# Altium footprint library Inductors SMD.PcbLib: 67 footprints (part 3 of 5)
Each footprint in its own frame and in the unit in brackets; x right, y up, seen from the top. Pads: shape width x height; smd on the part's side, far side on the other; paste and mask are expansions set on the pad; w line width, h text height; cw(c..) or ccw(c..) is an arc to the next point about the centre after c.
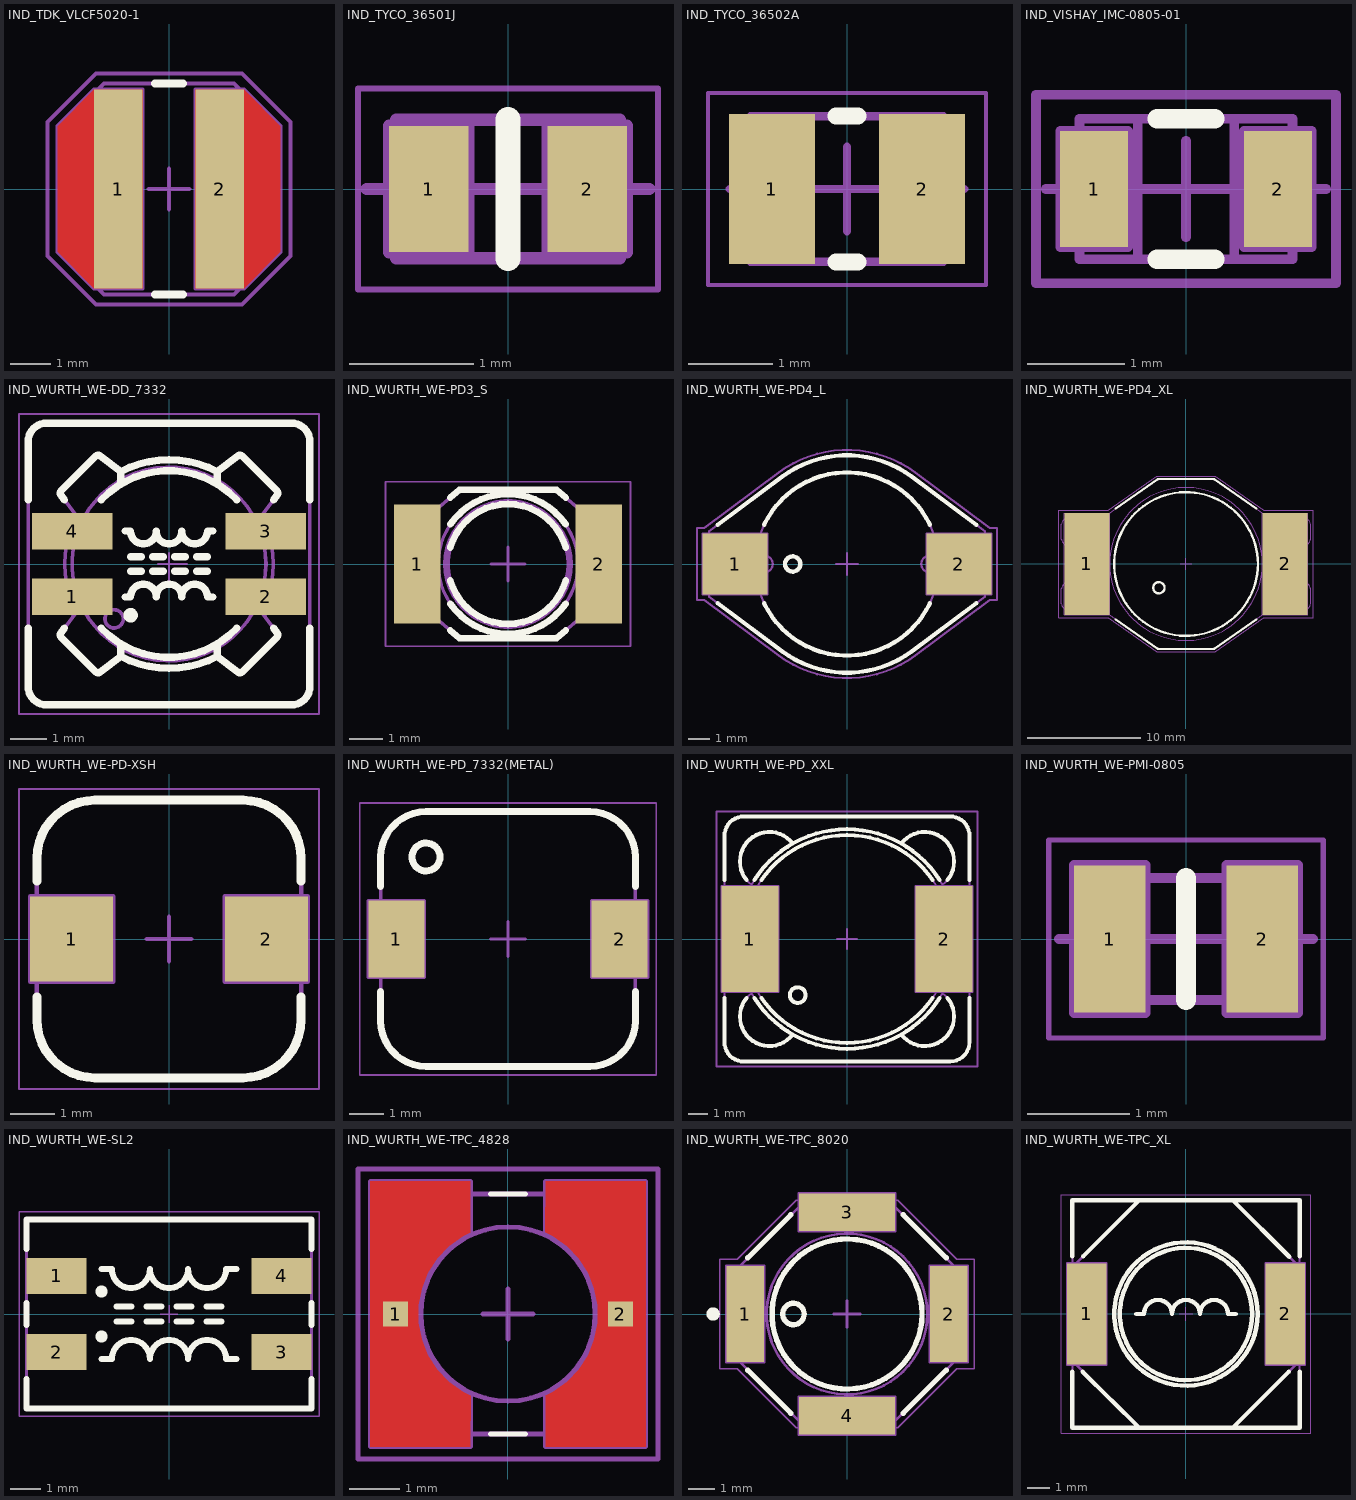
[diagram p2: the footprints below, top view; thin cyan lines are the x and y axes]

## IND_TDK_VLCF5020-1 [mm] "SMD Inductor, 5mm L X 5mm W X 2mm H, TDK VLCF5020-1 Case"
height 2
pads (2):
  rect 1.2x4.9 smd: 1(-1.25,0) 2(1.25,0)
Top Layer:
  region: -2.75,-1.55 -1.85,-2.45 -0.65,-2.45 -0.65,2.45 -1.85,2.45 -2.75,1.55
  region: 2.75,1.55 1.85,2.45 0.65,2.45 0.65,-2.45 1.85,-2.45 2.75,-1.55
Top Overlay:
  lines w0.2: -0.35,-2.6 0.35,-2.6 ; -0.35,2.6 0.35,2.6
Top Paste:
  region: -2.75,-1.55 -1.85,-2.45 -0.65,-2.45 -0.65,2.45 -1.85,2.45 -2.75,1.55
  region: 2.75,1.55 1.85,2.45 0.65,2.45 0.65,-2.45 1.85,-2.45 2.75,-1.55
Top Solder:
  region: 2.85,1.591 1.891,2.55 0.55,2.55 0.55,-2.55 1.891,-2.55 2.85,-1.591
  region: -2.85,-1.591 -1.891,-2.55 -0.55,-2.55 -0.55,2.55 -1.891,2.55 -2.85,1.591
Mechanical 8:
  lines w0.1: -2.2,0 -1.7,0 ; -1.7,-0.5 -1.7,0 ; -1.7,0.5 -1.7,0 ; -1.25,-0.5 -1.25,0 ; -1.25,0.5 -1.25,0 ; -0.75,0 -1.25,0 ; -0.5,0 0,0 ; 0,-0.5 0,0 ; 0,0.5 0,0 ; 0.5,0 0,0 ; 0.75,0 1.25,0 ; 1.25,-0.5 1.25,0 ; 1.25,0.5 1.25,0 ; 1.7,-0.5 1.7,0 ; 1.7,0.5 1.7,0 ; 2.2,0 1.7,0 ; -2.75,-1.55 -2.75,1.55 -1.85,2.45 -0.65,2.45 -0.65,-2.45 -1.85,-2.45 -2.75,-1.55 ; 0.65,-2.45 0.65,2.45 1.85,2.45 2.75,1.55 2.75,-1.55 1.85,-2.45 0.65,-2.45
Mechanical 14:
  lines w0.1: -2.6,-1.6 -1.6,-2.6 1.6,-2.6 2.6,-1.6 2.6,1.6 1.6,2.6 -1.6,2.6 -2.6,1.6 -2.6,-1.6
Mechanical 15:
  lines w0.1: -3,-1.654 -3,1.654 -1.804,2.85 1.804,2.85 3,1.654 3,-1.654 1.804,-2.85 -1.804,-2.85 -3,-1.654
3D body "IND_TDK_VLCF5020-1.stp": height 2, standoff 0, extent -2.6,-2.6 2.6,2.6

## IND_TYCO_36501J [mm] "Chip Inductor, 2-Leads, Body 108 x 1.12mm, TYCO 3650J Serie"
height 1.02
pads (2):
  rect 0.64x1.02 smd: 1(-0.64,0) 2(0.64,0)
Top Overlay:
  lines w0.2: 0,-0.56 0,0.56
Mechanical 8:
  lines w0.1: -1.14,0 -0.64,0 ; -0.64,-0.5 -0.64,0 ; -0.64,0.5 -0.64,0 ; -0.5,0 0,0 ; 0,-0.5 0,0 ; 0,0.5 0,0 ; 0.5,0 0,0 ; 0.64,-0.5 0.64,0 ; 0.64,0.5 0.64,0 ; 1.14,0 0.64,0 ; -0.96,-0.51 -0.96,0.51 -0.32,0.51 -0.32,-0.51 -0.96,-0.51 ; 0.32,-0.51 0.32,0.51 0.96,0.51 0.96,-0.51 0.32,-0.51
Mechanical 14:
  lines w0.1: -0.9,-0.56 0.9,-0.56 0.9,0.56 -0.9,0.56 -0.9,-0.56
Mechanical 15:
  lines w0.05: -1.21,-0.81 -1.21,0.81 1.21,0.81 1.21,-0.81 -1.21,-0.81
3D body "IND_TYCO_36501J.stp": height 1.02, standoff 0, extent -0.9,-0.56 0.9,0.56

## IND_TYCO_36502A [mm] "Chip Inductor, 2-Leads, EIA 0805, Metric 2012, Body L 2.29 x W 1.73mm x H 1.52mm"
height 1.52
pads (2):
  rect 1.02x1.78 smd: 1(-0.89,0) 2(0.89,0)
Top Overlay:
  lines w0.2: -0.13,-0.865 0.13,-0.865 ; -0.13,0.865 0.13,0.865
Mechanical 8:
  lines w0.1: -1.39,0 -0.89,0 ; -0.89,-0.5 -0.89,0 ; -0.89,0.5 -0.89,0 ; 0.89,-0.5 0.89,0 ; 0.89,0.5 0.89,0 ; 1.39,0 0.89,0 ; 0,0 -0.5,0 0,0 ; 0,0 0,-0.5 0,0 ; 0,0 0.5,0 0,0 ; 0,0 0,0.5 0,0
Mechanical 14:
  lines w0.1: -1.145,-0.865 1.145,-0.865 1.145,0.865 -1.145,0.865 -1.145,-0.865
Mechanical 15:
  lines w0.05: -1.65,-1.14 1.65,-1.14 1.65,1.14 -1.65,1.14 -1.65,-1.14
3D body "IND_TYCO_36502A.stp": height 1.52, standoff 0, extent -1.145,-0.865 1.145,0.865

## IND_VISHAY_IMC-0805-01 [mm] "Chip Inductor, EIA 0805, Metric 2012, Body 2.0x1.25mm"
height 1.4
pads (2):
  rect 0.7x1.2 smd: 1(-0.95,0) 2(0.95,0)
Top Overlay:
  lines w0.2: -0.3,-0.725 0.3,-0.725 ; -0.3,0.725 0.3,0.725
Mechanical 8:
  lines w0.1: -1.45,0 -0.95,0 ; -0.95,-0.5 -0.95,0 ; -0.95,0.5 -0.95,0 ; -0.5,0 0,0 ; 0,-0.5 0,0 ; 0,0.5 0,0 ; 0.5,0 0,0 ; 0.95,-0.5 0.95,0 ; 0.95,0.5 0.95,0 ; 1.45,0 0.95,0 ; -1.3,-0.6 -0.6,-0.6 -0.6,0.6 -1.3,0.6 -1.3,-0.6 ; 0.6,-0.6 0.6,0.6 1.3,0.6 1.3,-0.6 0.6,-0.6
Mechanical 14:
  lines w0.1: -0.5,-0.725 -0.5,0.725 ; 0.5,-0.725 0.5,0.725 ; -1.1,-0.725 1.1,-0.725 1.1,0.725 -1.1,0.725 -1.1,-0.725
Mechanical 15:
  lines w0.1: -1.55,-0.975 1.55,-0.975 1.55,0.975 -1.55,0.975 -1.55,-0.975
3D body "IND_VISHAY_IMC-0805-01.stp": height 1.4, standoff 0, extent -1.1,-0.725 1.1,0.725

## IND_WURTH_WE-DD_7332 [mm] "Power Choke, WE-DD Serie, Body 7.7x7.7mm"
height 4
pads (4):
  rect 2.2x1 smd: 1(-2.65,-0.9) 2(2.65,-0.9) 3(2.65,0.9) 4(-2.65,0.9)
Top Overlay:
  circle w0.2: c-1.05,-1.4 r0.1
  lines w0.2: -3.85,-1.75 -3.85,-3.35 ccw(c-3.35,-3.35) -3.35,-3.85 3.35,-3.85 ccw(c3.35,-3.35) 3.85,-3.35 3.85,-1.75 ; -3.85,1.75 -3.85,3.35 cw(c-3.35,3.35) -3.35,3.85 3.35,3.85 cw(c3.35,3.35) 3.85,3.35 3.85,1.75 ; -2.855,-1.75 -2.951,-1.875 ccw(c-2.872,-1.936) -2.943,-2.007 -2.007,-2.943 ccw(c-1.936,-2.872) -1.875,-2.951 -1.322,-2.525 ; -2.855,1.75 -2.951,1.875 cw(c-2.872,1.936) -2.943,2.007 -2.007,2.943 cw(c-1.936,2.872) -1.875,2.951 -1.322,2.525 ; -1.855,-1.75 ccw(c0,0) 1.855,-1.75 ; -1.855,1.75 cw(c0,0) 1.855,1.75 ; -1.322,-2.18 -1.322,-2.525 ; -1.322,2.18 -1.322,2.525 ; -1.2,-0.9 -1.05,-0.9 cw(c-0.7,-0.9) -0.35,-0.9 cw(c0,-0.9) 0.35,-0.9 cw(c0.7,-0.9) 1.05,-0.9 1.2,-0.9 ; -1.2,0.9 -1.05,0.9 ccw(c-0.7,0.9) -0.35,0.9 ccw(c0,0.9) 0.35,0.9 ccw(c0.7,0.9) 1.05,0.9 1.2,0.9 ; -1.05,-0.2 -0.75,-0.2 ; -1.05,0.2 -0.75,0.2 ; -0.45,-0.2 -0.15,-0.2 ; -0.45,0.2 -0.15,0.2 ; 0.15,-0.2 0.45,-0.2 ; 0.15,0.2 0.45,0.2 ; 0.75,-0.2 1.05,-0.2 ; 0.75,0.2 1.05,0.2 ; 1.322,-2.18 1.322,-2.525 ; 1.322,2.18 1.322,2.525 ; 2.855,-1.75 2.951,-1.875 cw(c2.872,-1.936) 2.943,-2.007 2.007,-2.943 cw(c1.936,-2.872) 1.875,-2.951 1.322,-2.525 ; 2.855,1.75 2.951,1.875 ccw(c2.872,1.936) 2.943,2.007 2.007,2.943 ccw(c1.936,2.872) 1.875,2.951 1.322,2.525 ; -1.322,-2.525 ccw(c0,0) 1.322,-2.525 ; -1.322,2.525 cw(c0,0) 1.322,2.525
Mechanical 8:
  lines w0.05: -2.65,-1.4 -2.65,-0.9 -2.15,-0.9 ; -2.65,0.4 -2.65,0.9 -2.15,0.9 ; 0,-0.5 0,0 0.5,0 ; 2.65,-1.4 2.65,-0.9 3.15,-0.9 ; 2.65,0.4 2.65,0.9 3.15,0.9
Mechanical 14:
  circle w0.1: c0,0 r2.65
  circle w0.1: c-1.5,-1.5 r0.25
  lines w0.1: -2.296,-1.322 -2.525,-1.322 ; -2.296,1.322 -2.525,1.322 ; -1.322,-2.296 -1.322,-2.525 ; -1.322,2.296 -1.322,2.525 ; -1.2,-0.9 -1.05,-0.9 cw(c-0.7,-0.9) -0.35,-0.9 cw(c0,-0.9) 0.35,-0.9 cw(c0.7,-0.9) 1.05,-0.9 1.2,-0.9 ; -1.2,0.9 -1.05,0.9 ccw(c-0.7,0.9) -0.35,0.9 ccw(c0,0.9) 0.35,0.9 ccw(c0.7,0.9) 1.05,0.9 1.2,0.9 ; -1.05,-0.2 -0.75,-0.2 ; -1.05,0.2 -0.75,0.2 ; -0.45,-0.2 -0.15,-0.2 ; -0.45,0.2 -0.15,0.2 ; 0.15,-0.2 0.45,-0.2 ; 0.15,0.2 0.45,0.2 ; 0.75,-0.2 1.05,-0.2 ; 0.75,0.2 1.05,0.2 ; 1.322,-2.296 1.322,-2.525 ; 1.322,2.296 1.322,2.525 ; 2.296,-1.322 2.525,-1.322 ; 2.296,1.322 2.525,1.322 ; -2.525,-1.322 cw(c0,0) -2.525,1.322 ; -2.525,-1.322 -2.951,-1.875 ccw(c-2.872,-1.936) -2.943,-2.007 -2.007,-2.943 ccw(c-1.936,-2.872) -1.875,-2.951 -1.322,-2.525 ; -2.525,1.322 -2.951,1.875 cw(c-2.872,1.936) -2.943,2.007 -2.007,2.943 cw(c-1.936,2.872) -1.875,2.951 -1.322,2.525 ; -1.322,-2.525 ccw(c0,0) 1.322,-2.525 ; -1.322,2.525 cw(c0,0) 1.322,2.525 ; 1.322,-2.525 1.875,-2.951 ccw(c1.936,-2.872) 2.007,-2.943 2.943,-2.007 ccw(c2.872,-1.936) 2.951,-1.875 2.525,-1.322 ; 1.322,2.525 1.875,2.951 cw(c1.936,2.872) 2.007,2.943 2.943,2.007 cw(c2.872,1.936) 2.951,1.875 2.525,1.322 ; 2.525,-1.322 ccw(c0,0) 2.525,1.322 ; -3.85,-3.35 ccw(c-3.35,-3.35) -3.35,-3.85 3.35,-3.85 ccw(c3.35,-3.35) 3.85,-3.35 3.85,3.35 ccw(c3.35,3.35) 3.35,3.85 -3.35,3.85 ccw(c-3.35,3.35) -3.85,3.35 -3.85,-3.35
Mechanical 15:
  lines w0.05: -0.3,0 0.3,0 ; 0,-0.3 0,0.3 ; -4.1,-4.1 -4.1,4.1 4.1,4.1 4.1,-4.1 -4.1,-4.1
3D body "IND_WURTH_WE-DD-7332.stp": height 4, standoff 0, extent -3.65,-3.65 3.65,3.65

## IND_WURTH_WE-PD3_S [mm] "SMD Power Choke, Width 4.45mm Body Lenght 6.6mm Height 2.92mm, WURTH WE-PD3 Serie"
height 2.92
pads (2):
  rect 1.4x3.56 smd: 1(-2.725,0) 2(2.725,0)
Top Overlay:
  lines w0.2: -1.73,-1.993 -1.462,-2.225 1.462,-2.225 1.73,-1.993 ; -1.73,-1.19 ccw(c0,0) 1.73,-1.19 ; -1.73,-0.497 ccw(c0,0) 1.73,-0.497 ; -1.73,0.497 cw(c0,0) 1.73,0.497 ; -1.73,1.19 cw(c0,0) 1.73,1.19 ; -1.73,1.993 -1.462,2.225 1.462,2.225 1.73,1.993
Mechanical 8:
  lines w0.1: -3.23,0 -2.73,0 ; -2.73,-0.5 -2.73,0 ; -2.73,0.5 -2.73,0 ; -2.23,0 -2.73,0 ; -0.5,0 0,0 ; 0,-0.5 0,0 ; 0,0.5 0,0 ; 0.5,0 0,0 ; 2.23,0 2.73,0 ; 2.73,-0.5 2.73,0 ; 2.73,0.5 2.73,0 ; 3.23,0 2.73,0
Mechanical 14:
  circle w0.1: c0,0 r2.1
  circle w0.1: c0,0 r1.9
  circle w0.1: c0,0 r1.8
  lines w0.1: -2.3,-1.5 -3.3,-0.635 -3.3,0.635 -2.3,1.5 ; -2.3,-1.5 -2.3,1.5 ; -2.3,-1.5 -1.462,-2.225 1.462,-2.225 2.3,-1.5 ; -2.3,1.5 -1.462,2.225 1.462,2.225 2.3,1.5 ; 2.3,-1.5 2.3,1.5 ; 2.3,-1.5 3.3,-0.635 3.3,0.635 2.3,1.5
Mechanical 15:
  lines w0.05: -3.68,-2.475 -3.68,2.475 3.68,2.475 3.68,-2.475 -3.68,-2.475
3D body "IND_WURTH_WE-PD3-S.stp": height 2.92, standoff 0, extent -3.3,-2.225 3.3,2.225

## IND_WURTH_WE-PD4_L [mm] "SMD Power Choke, Width 10mm Body Lenght 12.7mm Height 5.3mm, WURTH WE-PD 4 Serie Type L"
height 5.3
pads (2):
  rect 3x2.8 smd: 1(-5.15,0) 2(5.15,0)
Top Overlay:
  circle w0.2: c-2.5,0 r0.35
  lines w0.2: -5.948,-1.8 -2.99,-4.007 ccw(c0,0) 2.99,-4.007 5.948,-1.8 ; -5.948,1.8 -2.99,4.007 cw(c0,0) 2.99,4.007 5.948,1.8 ; -3.811,-1.8 ccw(c0,0) 3.811,-1.8 ; -3.811,1.8 cw(c0,0) 3.811,1.8
Mechanical 8:
  lines w0.1: -5.65,0 -5.15,0 ; -5.15,-0.5 -5.15,0 ; -5.15,0.5 -5.15,0 ; -4.65,0 -5.15,0 ; -0.5,0 0,0 ; 0,-0.5 0,0 ; 0,0.5 0,0 ; 0.5,0 0,0 ; 4.65,0 5.15,0 ; 5.15,-0.5 5.15,0 ; 5.15,0.5 5.15,0 ; 5.65,0 5.15,0 ; -6.65,-1.4 -3.65,-1.4 -3.65,1.4 -6.65,1.4 -6.65,-1.4 ; 3.65,-1.4 6.65,-1.4 6.65,1.4 3.65,1.4 3.65,-1.4
Mechanical 14:
  circle w0.1: c-2.5,0 r0.35
  circle w0.1: c0,0 r4.215
  lines w0.1: -6.2,-1 -6.2,1 ; -4.196,-0.4 -3.815,-0.4 ccw(c-3.815,0) -3.815,0.4 -4.196,0.4 ; -4.095,-1 -6.35,-1 -6.35,-1.5 -2.99,-4.007 ccw(c0,0) 2.99,-4.007 6.35,-1.5 6.35,-1 4.095,-1 ; -4.095,1 -6.35,1 -6.35,1.5 -2.99,4.007 cw(c0,0) 2.99,4.007 6.35,1.5 6.35,1 4.095,1 ; 4.196,-0.4 3.815,-0.4 cw(c3.815,0) 3.815,0.4 4.196,0.4 ; 6.2,-1 6.2,1
Mechanical 15:
  lines w0.1: -6.9,-1.65 -6.567,-1.65 -3.14,-4.208 ccw(c0,0) 3.14,-4.208 6.567,-1.65 6.9,-1.65 6.9,1.65 6.567,1.65 3.14,4.208 ccw(c0,0) -3.14,4.208 -6.567,1.65 -6.9,1.65 -6.9,-1.65
3D body "IND_WURTH_WE-PD4-L.stp": height 5, standoff 0, extent -6.35,-4.991 6.35,4.992

## IND_WURTH_WE-PD4_XL [mm] "SMD Power Choke, Body Width 15mm Body Lenght 15mm Height 7.8mm, WURTH WE-PD 4 Serie Type XL"
height 7.8
pads (2):
  rect 4x9 smd: 1(-8.75,0) 2(8.75,0)
Top Overlay:
  circle w0.2: c0,0 r6.35
  circle w0.2: c-2.395,-2.099 r0.5
  lines w0.2: -6.214,-4.9 -2.552,-7.464 ccw(c-2.437,-7.3) -2.437,-7.5 2.437,-7.5 ccw(c2.437,-7.3) 2.552,-7.464 6.214,-4.9 ; -6.214,4.9 -2.552,7.464 cw(c-2.437,7.3) -2.437,7.5 2.437,7.5 cw(c2.437,7.3) 2.552,7.464 6.214,4.9
Mechanical 8:
  lines w0.1: -9.25,0 -8.75,0 ; -8.75,-0.5 -8.75,0 ; -8.75,0.5 -8.75,0 ; -8.25,0 -8.75,0 ; -0.5,0 0,0 ; 0,-0.5 0,0 ; 0,0.5 0,0 ; 0.5,0 0,0 ; 8.25,0 8.75,0 ; 8.75,-0.5 8.75,0 ; 8.75,0.5 8.75,0 ; 9.25,0 8.75,0 ; -10.75,-4.5 -10.75,4.5 -6.75,4.5 -6.75,-4.5 -10.75,-4.5 ; 6.75,-4.5 6.75,4.5 10.75,4.5 10.75,-4.5 6.75,-4.5
Mechanical 14:
  circle w0.1: c0,0 r6.75
  circle w0.1: c-2.395,-2.099 r0.5
  lines w0.1: -9.8,-3 -10,-3 -10,-3.5 cw(c-10.5,-3.5) -11,-3.5 -11,-2.2 cw(c-10.5,-2.2) -10.852,-1.845 -10.059,-1.059 ccw(c-10.2,-0.917) -10,-0.917 -10,0.917 ccw(c-10.2,0.917) -10.059,1.059 -10.852,1.845 cw(c-10.5,2.2) -11,2.2 -11,3.5 cw(c-10.5,3.5) -10,3.5 -10,3 -9.8,3 ; -7.5,-3.896 ccw(c-7.3,-3.896) -7.415,-4.06 -2.552,-7.464 ccw(c-2.437,-7.3) -2.437,-7.5 2.437,-7.5 ccw(c2.437,-7.3) 2.552,-7.464 7.415,-4.06 ccw(c7.3,-3.896) 7.5,-3.896 ; -7.5,3.896 cw(c-7.3,3.896) -7.415,4.06 -2.552,7.464 cw(c-2.437,7.3) -2.437,7.5 2.437,7.5 cw(c2.437,7.3) 2.552,7.464 7.415,4.06 cw(c7.3,3.896) 7.5,3.896 ; 9.8,-3 10,-3 10,-3.5 ccw(c10.5,-3.5) 11,-3.5 11,-2.2 ccw(c10.5,-2.2) 10.852,-1.845 10.059,-1.059 cw(c10.2,-0.917) 10,-0.917 10,0.917 cw(c10.2,0.917) 10.059,1.059 10.852,1.845 ccw(c10.5,2.2) 11,2.2 11,3.5 ccw(c10.5,3.5) 10,3.5 10,3 9.8,3 ; -9.8,-4 -7.5,-4 -7.5,4 -9.8,4 -9.8,-4 ; 7.5,-4 9.8,-4 9.8,4 7.5,4 7.5,-4
Mechanical 15:
  lines w0.1: -11.25,-4.75 -11.25,4.75 -6.865,4.75 -2.579,7.75 2.579,7.75 6.865,4.75 11.25,4.75 11.25,-4.75 6.865,-4.75 2.579,-7.75 -2.579,-7.75 -6.865,-4.75 -11.25,-4.75
3D body "IND_WURTH_WE-PD4-XL.stp": height 7, standoff 0, extent -11,-7.5 11,7.5

## IND_WURTH_WE-PD-XSH [mm] "Power-Choke Inductor, Body 6.2x5.9mm, WURTH WE-PD Serie Type XSH"
height 5.1
pads (2):
  rect 1.85x1.9 smd: 1(-2.175,0) 2(2.175,0)
Top Overlay:
  lines w0.2: -2.95,-1.3 -2.95,-1.8 ccw(c-1.65,-1.8) -1.65,-3.1 1.65,-3.1 ccw(c1.65,-1.8) 2.95,-1.8 2.95,-1.3 ; -2.95,1.3 -2.95,1.8 cw(c-1.65,1.8) -1.65,3.1 1.65,3.1 cw(c1.65,1.8) 2.95,1.8 2.95,1.3
Mechanical 8:
  lines w0.1: -2.675,0 -2.175,0 ; -2.175,-0.5 -2.175,0 ; -2.175,0.5 -2.175,0 ; -1.675,0 -2.175,0 ; -0.5,0 0,0 ; 0,-0.5 0,0 ; 0,0.5 0,0 ; 0.5,0 0,0 ; 1.675,0 2.175,0 ; 2.175,-0.5 2.175,0 ; 2.175,0.5 2.175,0 ; 2.675,0 2.175,0 ; -3.1,-0.95 -1.25,-0.95 -1.25,0.95 -3.1,0.95 -3.1,-0.95 ; 1.25,-0.95 3.1,-0.95 3.1,0.95 1.25,0.95 1.25,-0.95
Mechanical 14:
  lines w0.1: -2.95,-1.8 ccw(c-1.65,-1.8) -1.65,-3.1 1.65,-3.1 ccw(c1.65,-1.8) 2.95,-1.8 2.95,1.8 ccw(c1.65,1.8) 1.65,3.1 -1.65,3.1 ccw(c-1.65,1.8) -2.95,1.8 -2.95,-1.8
Mechanical 15:
  lines w0.05: -3.35,-3.35 3.35,-3.35 3.35,3.35 -3.35,3.35 -3.35,-3.35
3D body "IND_WURTH_WE-PD-XSH.stp": height 5.1, standoff 0, extent -2.95,-3.1 2.95,3.1

## IND_WURTH_WE-PD_7332(METAL) [mm] "Power Choke, WE-PD Serie, Body 7.3x7.3mm (Metal Base)"
height 3.4
pads (2):
  rect 1.6x2.2 smd: 1(-3.2,0) 2(3.2,0)
Top Overlay:
  circle w0.2: c-2.35,2.35 r0.4
  lines w0.2: -3.65,-1.5 -3.65,-2.35 ccw(c-2.35,-2.35) -2.35,-3.65 2.35,-3.65 ccw(c2.35,-2.35) 3.65,-2.35 3.65,-1.5 ; -3.65,1.5 -3.65,2.35 cw(c-2.35,2.35) -2.35,3.65 2.35,3.65 cw(c2.35,2.35) 3.65,2.35 3.65,1.5
Mechanical 8:
  lines w0.1: -3.7,0 -3.2,0 ; -3.2,-0.5 -3.2,0 ; -3.2,0.5 -3.2,0 ; -2.7,0 -3.2,0 ; -0.5,0 0,0 ; 0,-0.5 0,0 ; 0,0.5 0,0 ; 0.5,0 0,0 ; 2.7,0 3.2,0 ; 3.2,-0.5 3.2,0 ; 3.2,0.5 3.2,0 ; 3.7,0 3.2,0 ; -2.4,-1.1 -4,-1.1 -4,1.1 -2.4,1.1 ; -2.4,-1.1 -2.4,1.1 ; -2.4,-1.1 -2.4,1.1 ; 4,-1.1 2.4,-1.1 2.4,1.1 4,1.1 ; 4,-1.1 4,1.1 ; 4,-1.1 4,1.1
Mechanical 14:
  circle w0.1: c-2.35,2.35 r0.4
  lines w0.1: -3.65,-2.35 ccw(c-2.35,-2.35) -2.35,-3.65 2.35,-3.65 ccw(c2.35,-2.35) 3.65,-2.35 3.65,2.35 ccw(c2.35,2.35) 2.35,3.65 -2.35,3.65 ccw(c-2.35,2.35) -3.65,2.35 -3.65,-2.35
Mechanical 15:
  lines w0.05: -4.25,-3.9 -4.25,3.9 4.25,3.9 4.25,-3.9 -4.25,-3.9
3D body "IND_WURTH_WE-PD_7332(METAL).stp": height 3.4, standoff 0, extent -3.65,-3.65 3.65,3.65

## IND_WURTH_WE-PD_XXL [mm] "Power-Choke Inductor, Body 12x12mm, WURTH WE-PD Serie Type XXL"
height 10
pads (2):
  rect 2.9x5.4 smd: 1(-4.95,0) 2(4.95,0)
Top Overlay:
  circle w0.2: c-2.51,-2.86 r0.4
  lines w0.2: -6.25,-3 -6.25,-5.25 ccw(c-5.25,-5.25) -5.25,-6.25 5.25,-6.25 ccw(c5.25,-5.25) 6.25,-5.25 6.25,-3 ; -6.25,3 -6.25,5.25 cw(c-5.25,5.25) -5.25,6.25 5.25,6.25 cw(c5.25,5.25) 6.25,5.25 6.25,3 ; -5.113,-3 ccw(c-3.96,-3.96) -2.767,-4.869 ; -5.113,3 cw(c-3.96,3.96) -2.767,4.869 ; -4.729,-3 ccw(c0,0) 4.729,-3 ; -4.729,3 cw(c0,0) 4.729,3 ; -4.369,-3 ccw(c0,0) 4.369,-3 ; -4.369,3 cw(c0,0) 4.369,3 ; 2.767,-4.869 ccw(c3.96,-3.96) 5.113,-3 ; 2.767,4.869 cw(c3.96,3.96) 5.113,3
Mechanical 8:
  lines w0.1: -5.45,0 -4.95,0 ; -4.95,-0.5 -4.95,0 ; -4.95,0.5 -4.95,0 ; -4.45,0 -4.95,0 ; -0.5,0 0,0 ; 0,-0.5 0,0 ; 0,0.5 0,0 ; 0.5,0 0,0 ; 4.45,0 4.95,0 ; 4.95,-0.5 4.95,0 ; 4.95,0.5 4.95,0 ; 5.45,0 4.95,0 ; -3.5,-2.7 -6.4,-2.7 -6.4,2.7 -3.5,2.7 ; -3.5,-2.7 -3.5,2.7 ; -3.5,-2.7 -3.5,2.7 ; 3.5,-2.7 3.5,2.7 ; 3.5,-2.7 6.4,-2.7 6.4,2.7 3.5,2.7 ; 3.5,-2.7 3.5,2.7
Mechanical 14:
  circle w0.1: c0,0 r5.6
  circle w0.1: c0,0 r5.3
  circle w0.1: c-2.51,-2.86 r0.4
  lines w0.1: -4.869,-2.767 ccw(c-3.96,-3.96) -2.767,-4.869 ; -4.869,2.767 cw(c-3.96,3.96) -2.767,4.869 ; 2.767,-4.869 ccw(c3.96,-3.96) 4.869,-2.767 ; 2.767,4.869 cw(c3.96,3.96) 4.869,2.767 ; -6.25,-5.25 ccw(c-5.25,-5.25) -5.25,-6.25 5.25,-6.25 ccw(c5.25,-5.25) 6.25,-5.25 6.25,5.25 ccw(c5.25,5.25) 5.25,6.25 -5.25,6.25 ccw(c-5.25,5.25) -6.25,5.25 -6.25,-5.25
Mechanical 15:
  lines w0.1: -6.65,-6.5 6.65,-6.5 6.65,6.5 -6.65,6.5 -6.65,-6.5
3D body "IND_WURTH_WE-PD-XXL.stp": height 10, standoff 0, extent -6.25,-6.25 6.25,6.25

## IND_WURTH_WE-PMI-0805 [mm] "Chip Inductor, EIA 0805, Metric 2012, Body 2.0x1.2mm, WE-PMI Serie"
height 1.2
pads (2):
  rect 0.7x1.45 smd: 1(-0.75,0) 2(0.75,0)
Top Overlay:
  lines w0.2: 0,-0.6 0,0.6
Mechanical 8:
  lines w0.1: -1.25,0 -0.75,0 ; -0.75,-0.5 -0.75,0 ; -0.75,0.5 -0.75,0 ; -0.5,0 0,0 ; 0,-0.5 0,0 ; 0,0.5 0,0 ; 0.5,0 0,0 ; 0.75,-0.5 0.75,0 ; 0.75,0.5 0.75,0 ; 1.25,0 0.75,0 ; -1.1,-0.725 -0.4,-0.725 -0.4,0.725 -1.1,0.725 -1.1,-0.725 ; 0.4,-0.725 1.1,-0.725 1.1,0.725 0.4,0.725 0.4,-0.725
Mechanical 14:
  lines w0.1: -1,-0.6 1,-0.6 1,0.6 -1,0.6 -1,-0.6
Mechanical 15:
  lines w0.05: -1.35,-0.975 1.35,-0.975 1.35,0.975 -1.35,0.975 -1.35,-0.975
3D body "IND_WURTH_WE-PMI-0805.stp": height 1, standoff 0, extent -1,-0.6 1,0.6

## IND_WURTH_WE-SL2 [mm] "Common Mode SMD Line Filter WE-SL2"
height 1.45
pads (4):
  rect 2x1.2 smd: 1(-3.75,1.27) 2(-3.75,-1.27) 3(3.75,-1.27) 4(3.75,1.27)
Top Overlay:
  circle w0.2: c-2.25,0.75 r0.1
  circle w0.2: c-2.25,-0.75 r0.1
  lines w0.2: -4.75,-2.175 -4.75,-3.15 4.75,-3.15 4.75,-2.175 ; -4.75,-0.365 -4.75,0.365 ; -4.75,2.175 -4.75,3.15 4.75,3.15 4.75,2.175 ; -2.25,-1.5 -1.905,-1.5 cw(c-1.27,-1.5) -0.635,-1.5 cw(c0,-1.5) 0.635,-1.5 cw(c1.27,-1.5) 1.905,-1.5 2.25,-1.5 ; -2.25,1.5 -1.905,1.5 ccw(c-1.27,1.5) -0.635,1.5 ccw(c0,1.5) 0.635,1.5 ccw(c1.27,1.5) 1.905,1.5 2.25,1.5 ; -1.75,-0.25 -1.25,-0.25 ; -1.75,0.25 -1.25,0.25 ; -0.75,-0.25 -0.25,-0.25 ; -0.75,0.25 -0.25,0.25 ; 0.25,-0.25 0.75,-0.25 ; 0.25,0.25 0.75,0.25 ; 1.25,-0.25 1.75,-0.25 ; 1.25,0.25 1.75,0.25 ; 4.75,-0.365 4.75,0.365
Mechanical 14:
  circle w0.1: c-2.25,0.75 r0.1
  circle w0.1: c-2.25,-0.75 r0.1
  lines w0.1: -2.25,-1.5 -1.905,-1.5 cw(c-1.27,-1.5) -0.635,-1.5 cw(c0,-1.5) 0.635,-1.5 cw(c1.27,-1.5) 1.905,-1.5 2.25,-1.5 ; -2.25,1.5 -1.905,1.5 ccw(c-1.27,1.5) -0.635,1.5 ccw(c0,1.5) 0.635,1.5 ccw(c1.27,1.5) 1.905,1.5 2.25,1.5 ; -1.75,-0.25 -1.25,-0.25 ; -1.75,0.25 -1.25,0.25 ; -0.75,-0.25 -0.25,-0.25 ; -0.75,0.25 -0.25,0.25 ; 0.25,-0.25 0.75,-0.25 ; 0.25,0.25 0.75,0.25 ; 1.25,-0.25 1.75,-0.25 ; 1.25,0.25 1.75,0.25 ; -4.75,-3.15 4.75,-3.15 4.75,3.15 -4.75,3.15 -4.75,-3.15
Mechanical 15:
  lines w0.05: -0.3,0 0.3,0 ; 0,-0.3 0,0.3 ; -5,-3.4 5,-3.4 5,3.4 -5,3.4 -5,-3.4
3D body "IND_WURTH_WE-SL2.stp": height 5.3, standoff 0, extent -4.749,-3.149 4.751,3.151

## IND_WURTH_WE-TPC_4828 [mm] "Shielded Tiny Power Inductor, Body 4.8x4.8mm"
height 2.8
pads (2):
  rect 0.5x0.5 smd: 1(-2.247,0) 2(2.247,0)
Top Layer:
  region: 0.75,-2.65 2.75,-2.65 2.75,2.65 0.75,2.65 0.75,1.636 0.902,1.558 1.18,1.359 1.416,1.112 1.6,0.824 1.727,0.507 1.792,0.171 1.792,-0.171 1.727,-0.507 1.6,-0.824 1.416,-1.112 1.18,-1.359 0.902,-1.558 0.75,-1.636
  region: -2.75,-2.65 -0.75,-2.65 -0.75,-1.636 -0.902,-1.558 -1.18,-1.359 -1.416,-1.112 -1.6,-0.824 -1.727,-0.507 -1.792,-0.171 -1.792,0.171 -1.727,0.507 -1.6,0.824 -1.416,1.112 -1.18,1.359 -0.902,1.558 -0.75,1.636 -0.75,2.65 -2.75,2.65
Top Overlay:
  lines w0.1: -0.35,-2.4 0.35,-2.4 ; -0.35,2.4 0.35,2.4
Mechanical 8:
  lines w0.1: -2.747,0 -2.247,0 ; -2.247,-0.5 -2.247,0 ; -2.247,0.5 -2.247,0 ; -1.747,0 -2.247,0 ; -0.5,0 0,0 ; 0,-0.5 0,0 ; 0,0.5 0,0 ; 0.5,0 0,0 ; 1.747,0 2.247,0 ; 2.247,-0.5 2.247,0 ; 2.247,0.5 2.247,0 ; 2.747,0 2.247,0 ; -2.75,-2.65 -2.75,2.65 -0.75,2.65 -0.75,1.636 ccw(c0,0) -0.75,-1.636 -0.75,-2.65 -2.75,-2.65 ; 0.75,-2.65 0.75,-1.636 ccw(c0,0) 0.75,1.636 0.75,2.65 2.75,2.65 2.75,-2.65 0.75,-2.65
Mechanical 14:
  circle w0.1: c0,0 r1.744
  lines w0.1: -2.4,-2.4 2.4,-2.4 2.4,2.4 -2.4,2.4 -2.4,-2.4
Mechanical 15:
  lines w0.1: -3,-2.9 -3,2.9 3,2.9 3,-2.9 -3,-2.9
3D body "IND_WURTH_WE-TPC-4828.stp": height 2.8, standoff 0, extent -2.4,-2.4 2.4,2.4

## IND_WURTH_WE-TPC_8020 [mm] "Power Choke Inductor, Body 8x8mm"
height 2
pads (4):
  rect 1.4x3.6 smd: 1(-3.8,0) 2(3.8,0)
  rect 3.6x1.4 smd: 3(0,3.8) 4(0,-3.8)
Top Overlay:
  circle w0.2: c-2,0 r0.4
  circle w0.25: c-5,0 r0.125
  circle w0.2: c0,0 r2.8
  lines w0.2: -3.7,-2.1 -2.1,-3.7 ; -3.7,2.1 -2.1,3.7 ; 2.1,-3.7 3.7,-2.1 ; 2.1,3.7 3.7,2.1
Mechanical 8:
  lines w0.1: -4.3,0 -3.8,0 ; -3.8,-0.5 -3.8,0 ; -3.8,0.5 -3.8,0 ; -3.3,0 -3.8,0 ; -0.5,-3.8 0,-3.8 ; -0.5,0 0,0 ; -0.5,3.8 0,3.8 ; 0,-4.3 0,-3.8 ; 0,-3.3 0,-3.8 ; 0,-0.5 0,0 ; 0,0.5 0,0 ; 0,3.3 0,3.8 ; 0,4.3 0,3.8 ; 0.5,-3.8 0,-3.8 ; 0.5,0 0,0 ; 0.5,3.8 0,3.8 ; 3.3,0 3.8,0 ; 3.8,-0.5 3.8,0 ; 3.8,0.5 3.8,0 ; 4.3,0 3.8,0 ; -4.5,-1.8 -3.1,-1.8 -3.1,1.8 -4.5,1.8 -4.5,-1.8 ; -1.8,-4.5 -1.8,-3.1 1.8,-3.1 1.8,-4.5 -1.8,-4.5 ; -1.8,3.1 -1.8,4.5 1.8,4.5 1.8,3.1 -1.8,3.1 ; 3.1,-1.8 4.5,-1.8 4.5,1.8 3.1,1.8 3.1,-1.8
Mechanical 14:
  circle w0.1: c-2,0 r0.4
  circle w0.1: c0,0 r3
  circle w0.1: c0,0 r2.8
  lines w0.1: -4,-1.8 -4,1.8 -1.8,4 1.8,4 4,1.8 4,-1.8 1.8,-4 -1.8,-4 -4,-1.8
Mechanical 15:
  lines w0.05: -4.75,-2.05 -4.104,-2.05 -1.904,-4.25 1.904,-4.25 4.104,-2.05 4.75,-2.05 4.75,2.05 4.104,2.05 1.904,4.25 -1.904,4.25 -4.104,2.05 -4.75,2.05 -4.75,-2.05
3D body "IND_WURTH_WE-TPC-8020.stp": height 2, standoff 0, extent -4,-4 4,4

## IND_WURTH_WE-TPC_XL [mm] "Shielded Tiny Power Inductor, Body 10.3x10.3mm"
height 3.1
pads (2):
  rect 1.8x4.6 smd: 1(-4.5,0) 2(4.5,0)
Top Overlay:
  circle w0.2: c0,0 r3
  circle w0.2: c0,0 r3.25
  lines w0.2: -5.15,-2.625 -5.15,-5.15 5.15,-5.15 5.15,-2.625 ; -5.15,2.625 -5.15,5.15 5.15,5.15 5.15,2.625 ; -4.675,-2.625 -2.133,-5.15 ; -4.65,2.625 -2.133,5.15 ; -2.25,0 -1.905,0 cw(c-1.27,0) -0.635,0 cw(c0,0) 0.635,0 cw(c1.27,0) 1.905,0 2.25,0 ; 2.133,-5.15 4.65,-2.625 ; 2.133,5.15 4.675,2.6
Mechanical 8:
  lines w0.1: -5.4,-2.3 -5.4,2.3 -3.6,2.3 -3.6,-2.3 -5.4,-2.3 ; 3.6,-2.3 3.6,2.3 5.4,2.3 5.4,-2.3 3.6,-2.3
Mechanical 14:
  circle w0.1: c0,0 r3.25
  circle w0.1: c0,0 r3
  lines w0.1: -5.15,-2.133 -2.133,-5.15 ; -5.15,2.133 -2.133,5.15 ; -2.25,0 -1.905,0 cw(c-1.27,0) -0.635,0 cw(c0,0) 0.635,0 cw(c1.27,0) 1.905,0 2.25,0 ; 2.133,-5.15 5.15,-2.133 ; 2.133,5.15 5.15,2.133 ; -5.15,-5.15 5.15,-5.15 5.15,5.15 -5.15,5.15 -5.15,-5.15
Mechanical 15:
  lines w0.05: -0.3,0 0.3,0 ; 0,-0.3 0,0.3 ; -5.65,-5.4 5.65,-5.4 5.65,5.4 -5.65,5.4 -5.65,-5.4
3D body "IND_WURTH_WE-TPC-XL.stp": height 3.1, standoff 0, extent -5.155,-5.155 5.145,5.145